# Altium schematic symbol library RSP2STLIB.SchLib: 17 symbols
Pins are listed as number, name and electrical type; pins without a type are passive.

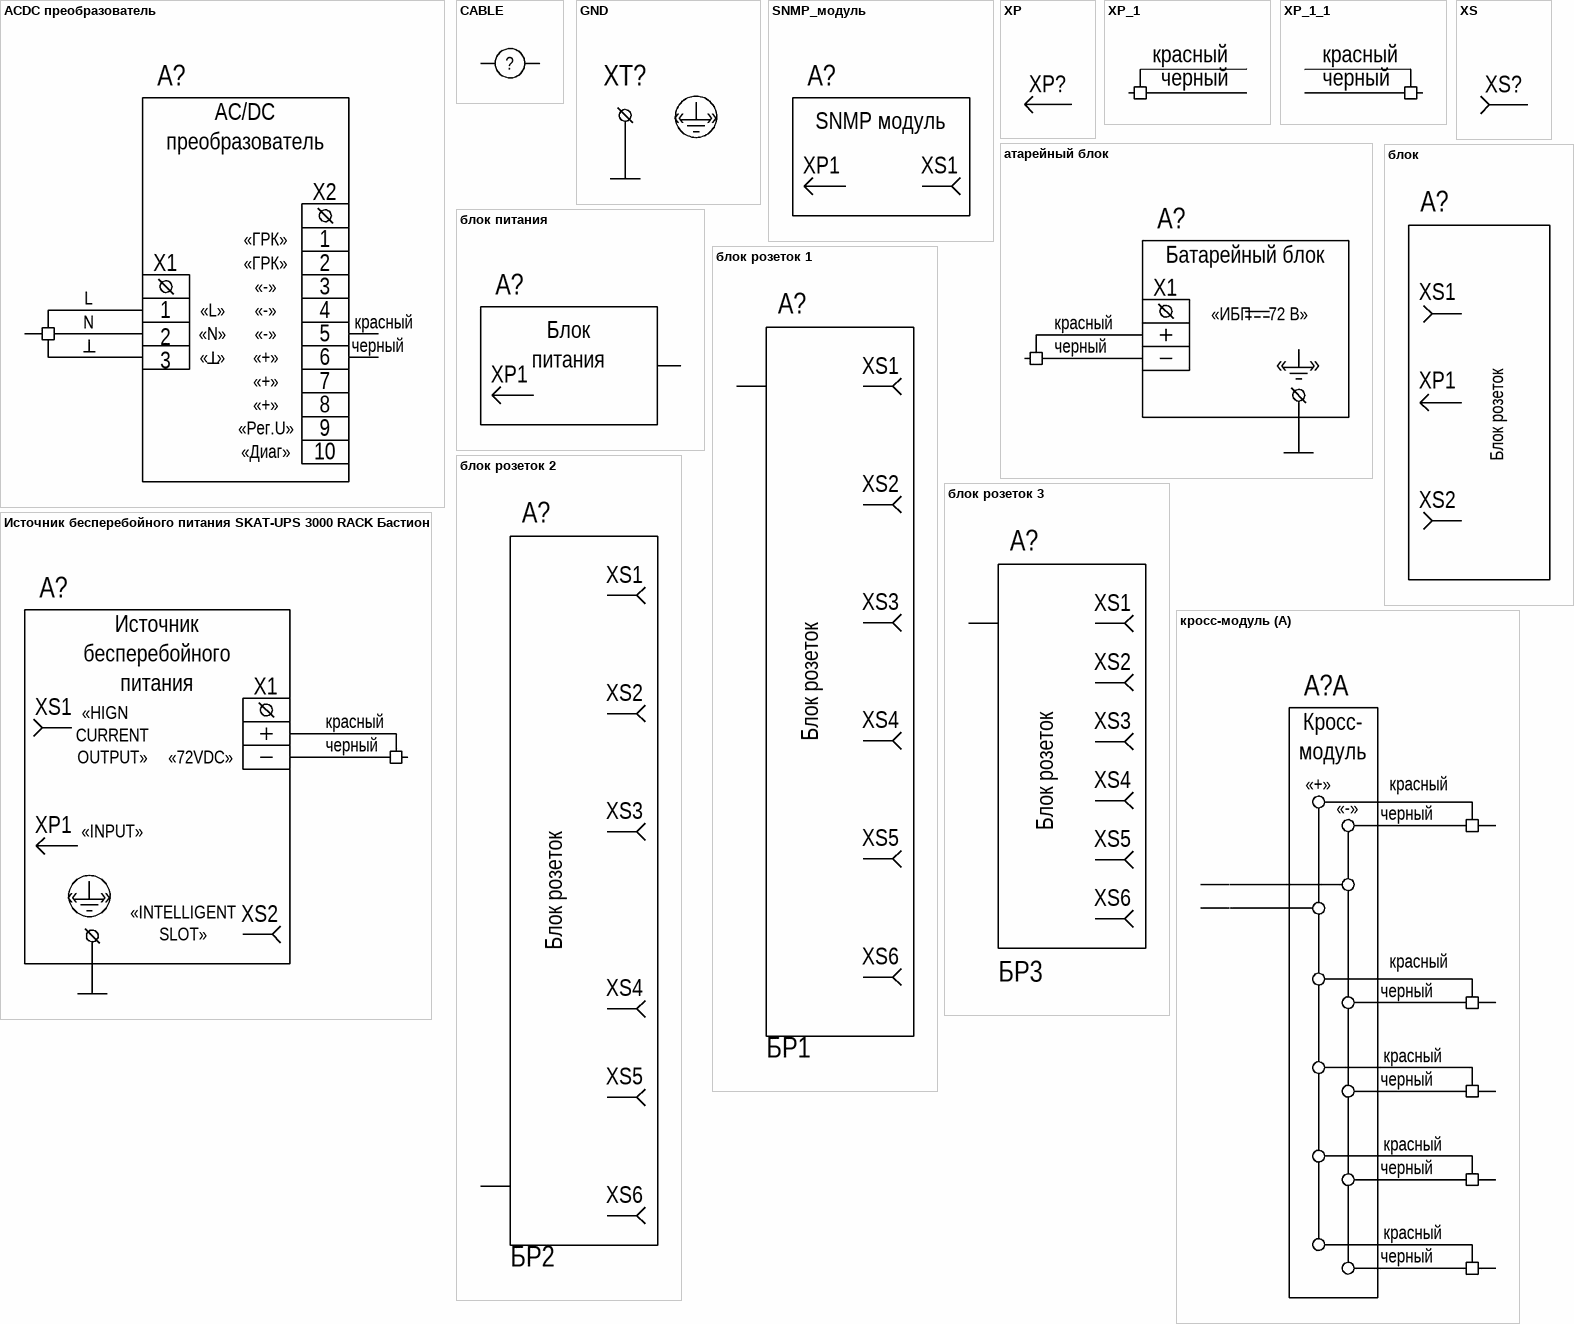
[diagram p0: symbols ACDC преобразователь to кросс-модуль]

## ACDC преобразователь
designator A?, comment ACDC  (value not drawn)
pins: 5 ANAIN3 (power), 6 ANAIN4 (power), 7 ANAIN5 (power)
text: AC/DC; преобразователь; X2; «ГРК»; 1; X1; 2; «-»; 3; L; «L»; 4; N; красный; «N»; черный; «  »; «+»; 8; «Рег.U»; 9; «Диаг»; 10

## CABLE
designator ?  (value not drawn)
pins: 4 ANAIN2 (power), 5 ANAIN3 (power)

## GND
designator XT?  (value not drawn)
text: «    »

## SNMP_модуль
designator A?  (value not drawn)
text: SNMP модуль; XP1; XS1

## XP
designator XP?  (value not drawn)
pins: 6 ANAIN4 (power)

## XP_1
designator *  2: черный  1: красный  (hidden comment: *)
pins: 6 ANAIN4 (power)

## XP_1_1
designator *  2: черный  1: красный  (hidden comment: *)
pins: 6 ANAIN4 (power)

## XS
designator XS?  (value not drawn)
pins: 6 ANAIN4 (power)

## атарейный блок
designator A?, comment бб  (value not drawn)
pins: 6 ANAIN4 (power)
text: Батарейный блок; X1; «ИБП    72 В»; красный; черный; «    »

## блок
designator A?  (value not drawn)
text: XS1; XP1; Блок розеток; XS2

## блок питания
designator A?  (value not drawn)
pins: 6 ANAIN4 (power)
text: Блок; XP1; питания

## блок розеток 1
designator A?, comment БР1
pins: 5 ANAIN3 (power)
text: XS1; XS2; XS3; Блок розеток; XS4; XS5; XS6

## блок розеток 2
designator A?, comment БР2
pins: 5 ANAIN3 (power)
text: XS1; XS2; XS3; Блок розеток; XS4; XS5; XS6

## блок розеток 3
designator A?, comment БР3
pins: 5 ANAIN3 (power)
text: XS1; XS2; XS3; XS4; Блок розеток; XS5; XS6

## Источник бесперебойного питания SKAT-UPS 3000 RACK Бастион
designator A?  (value not drawn)
pins: 6 ANAIN4 (power)
text: Источник; бесперебойного; X1; питания; XS1; «HIGN; красный; CURRENT; черный; OUTPUT»; «72VDC»; XP1; «INPUT»; «    »; XS2; «INTELLIGENT; SLOT»

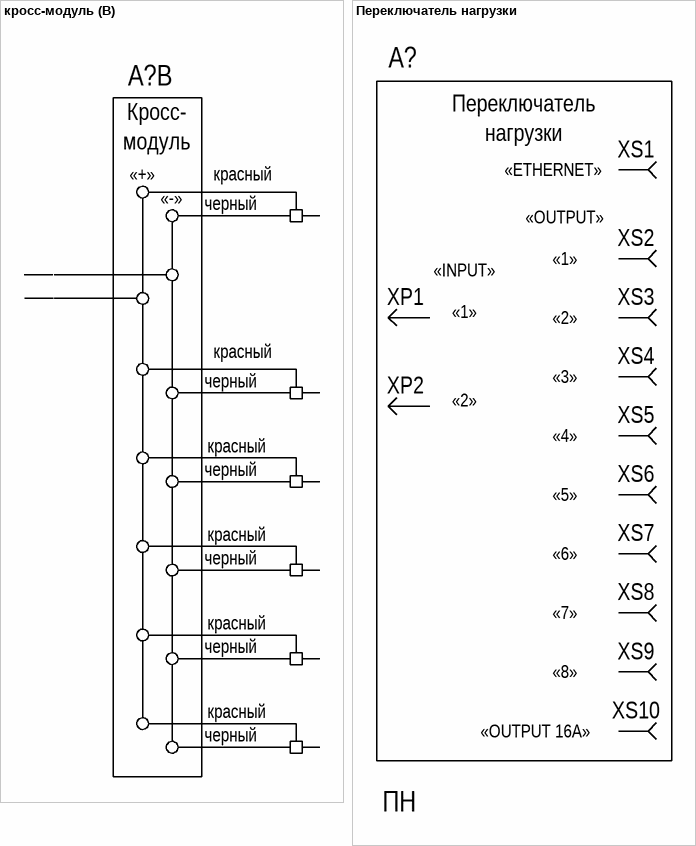
[diagram p1: symbols кросс-модуль to Переключатель нагрузки]

## кросс-модуль
designator A?, comment км  (value not drawn)
part A pins: 5 ANAIN3 (power), 6 ANAIN4 (power), 7 ANAIN5 (power), 7 ANAIN5 (power), 8 ANAIN6 (power), 8 ANAIN6 (power), 9 ANAIN7 (power)
part B pins: 5 ANAIN3 (power), 6 ANAIN4 (power), 7 ANAIN5 (power), 7 ANAIN5 (power), 8 ANAIN6 (power), 8 ANAIN6 (power), 9 ANAIN7 (power), 10 ANAIN8 (power)
part A text: Кросс-; модуль; «+»; красный; «-»; черный
part B text: Кросс-; модуль; «+»; красный; «-»; черный

## Переключатель нагрузки
designator A?, comment ПН
text: Переключатель; нагрузки; XS1; «ETHERNET»; «OUTPUT»; XS2; «1»; «INPUT»; XP1; XS3; «2»; XS4; XP2; «3»; XS5; «4»; XS6; «5»; XS7; «6»; XS8; «7»; XS9; «8»; XS10; «OUTPUT 16A»